# Altium footprint library ConectorUSB.PcbLib: 2 footprints
Each footprint in its own frame and in the unit in brackets; x right, y up, seen from the top. Pads: shape width x height; smd on the part's side, far side on the other; paste and mask are expansions set on the pad; w line width, h text height; cw(c..) or ccw(c..) is an arc to the next point about the centre after c.
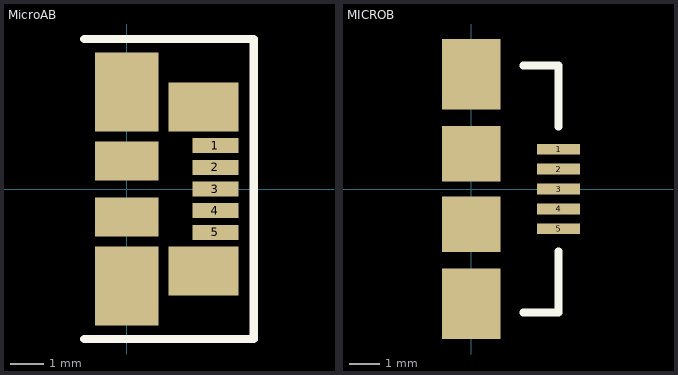
[diagram p0: the footprints below, top view; thin cyan lines are the x and y axes]

## MicroAB [mm]
pads (11):
  rect 1.38x0.45 smd: 1(2.66,1.3) 2(2.66,0.65) 3(2.66,0) 4(2.66,-0.65) 5(2.66,-1.3)
  rect 1.9x2.375 smd: ""(0,-2.913) ""(0,2.913)
  rect 1.9x1.175 smd: ""(0,-0.837) ""(0,0.837)
  rect 2.1x1.475 smd: ""(2.3,-2.462) ""(2.3,2.462)
Top Overlay:
  lines w0.254: -1.27,-4.5 3.81,-4.5 3.81,4.5 -1.27,4.5
3D body: height 2.76, standoff -0.24, extent -2.921,-4.4 2.679,4.4

## MICROB [mm]
pads (9):
  rect 1.4x0.35 smd: 1(2.85,1.3) 2(2.85,0.65) 3(2.85,0) 4(2.85,-0.65) 5(2.85,-1.3)
  rect 1.9x2.3 smd: ""(0,-3.75) ""(0,3.75)
  rect 1.9x1.8 smd: ""(0,-1.15) ""(0,1.15)
Top Overlay:
  lines w0.254: 1.7,-4.03 2.85,-4.03 2.85,-2.03 ; 1.7,4.03 2.85,4.03 2.85,2.03
3D body: height 2.73, standoff 0.03, extent -2.206,-3.9 2.794,3.9